# Altium schematic symbol library ATM90E26_YU_B.SchLib: 1 symbol
Pins are listed as number, name and electrical type; pins without a type are passive.

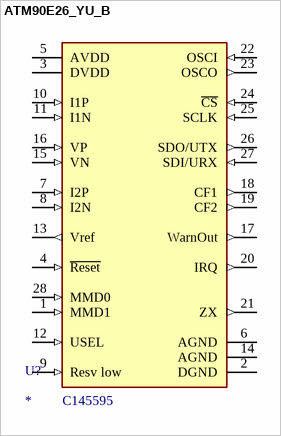
[diagram p0: symbol ATM90E26_YU_B]

## ATM90E26_YU_B
designator U?  LCSC: C145595
ATM90E26-YU-B_2.8V~3.6V SSOP-28  Energy Metering ICs ROHS
footprint ATM90E26_YU_B
pins: 1 MMD1 (in), 2 DGND (power), 3 DVDD (power), 4 ~{Reset} (in), 5 AVDD (power), 6 AGND (power), 7 I2P (in), 8 I2N (in), 9 Resv low (in), 10 I1P (in), 11 I1N (in), 12 USEL (in), 13 Vref (out), 14 AGND (power), 15 VN (in), 16 VP (in), 17 WarnOut (out), 18 CF1 (out), 19 CF2 (out), 20 IRQ (out), 21 ZX (out), 22 OSCI (in), 23 OSCO (out), 24 ~{CS} (in), 25 SCLK (in), 26 SDO/UTX (out), 27 SDI/URX (in), 28 MMD0 (in)